# Altium schematic symbol library parts.SchLib: 2 symbols
Pins are listed as number, name and electrical type; pins without a type are passive.

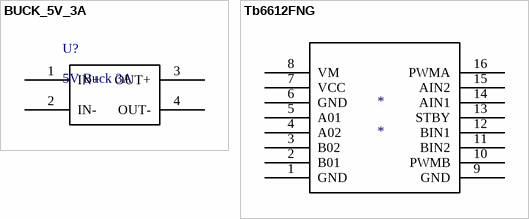
[diagram p0: symbols BUCK_5V_3A to Tb6612FNG]

## BUCK_5V_3A
designator U?, comment 5V Buck 3A
pins: 1 IN+, 2 IN-, 3 OUT+, 4 OUT-

## Tb6612FNG
designator *
pins: 1 GND, 2 B01, 3 B02, 4 A02, 5 A01, 6 GND, 7 VCC, 8 VM, 9 GND, 10 PWMB, 11 BIN2, 12 BIN1, 13 STBY, 14 AIN1, 15 AIN2, 16 PWMA